# EAGLE library part 74LVC2T45 (library 74LVCH2T45DC)
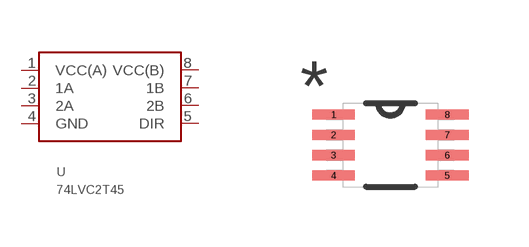
[diagram p0: symbol with the pads of VSSOP8; footprint VSSOP8]

Designator prefix -

## 74LVC2T45  [VSSOP8]
1  VCC(A)
2  1A
3  2A
4  GND
5  DIR
6  2B
7  1B
8  VCC(B)

## Footprint VSSOP8 (pad centres in mm)
smd 1.067 x 0.254: 1 -1.422,0.762; 2 -1.422,0.254; 3 -1.422,-0.254; 4 -1.422,-0.762; 5 1.422,-0.762; 6 1.422,-0.254; 7 1.422,0.254; 8 1.422,0.762